# Altium footprint library Passive Comp.PcbLib: 3 footprints
Each footprint in its own frame and in the unit in brackets; x right, y up, seen from the top. Pads: shape width x height; smd on the part's side, far side on the other; paste and mask are expansions set on the pad; w line width, h text height; cw(c..) or ccw(c..) is an arc to the next point about the centre after c.
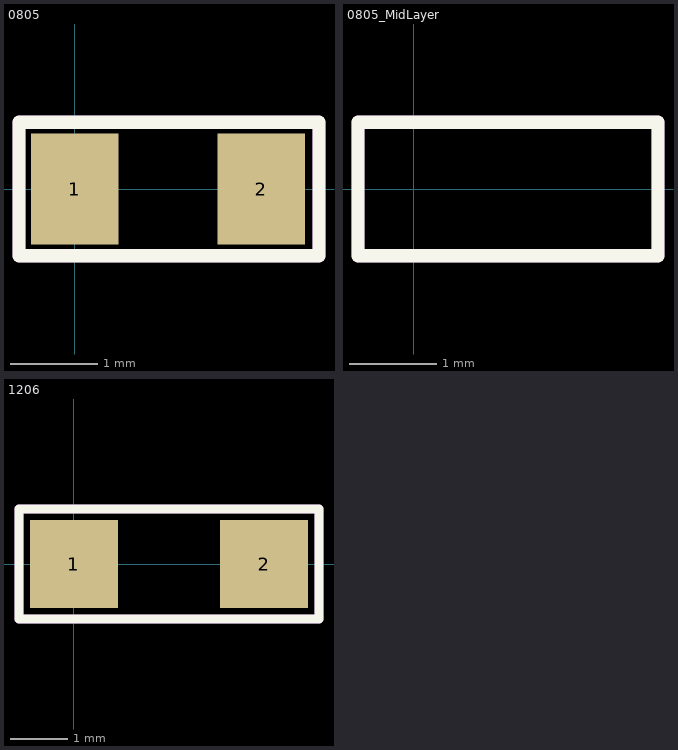
[diagram p0: the footprints below, top view; thin cyan lines are the x and y axes]

## 0805 [mil]
height 2
pads (2):
  rect 39.37x50 smd: 1(0,0) 2(84,0)
Top Overlay:
  lines w6: -25,-30 -25,30 110,30 110,-30 -25,-30
Mechanical 16:
  lines w6: -25,-30 110,-30 110,30 -25,30 -25,-30

## 0805_MidLayer [mil]
pads (2):
  rect 0x0 / inner rect 39.37x50 / far side rect 0x0 all layers, no hole: 1(0,0) 2(84,0)
Top Overlay:
  lines w6: -25,-30 -25,30 110,30 110,-30 -25,-30
Mechanical 1:
  lines w6: -25,-30 -25,30 110,30 110,-30 -25,-30

## 1206 [mil]
height 3
pads (2):
  rect 60x60 smd: 1(0,0) 2(130,0)
Top Overlay:
  lines w6: -37.5,-37.5 167.5,-37.5 167.5,37.5 -37.5,37.5 -37.5,-37.5
Mechanical 16:
  lines w6: -37.5,-37.5 -37.5,37.5 167.5,37.5 167.5,-37.5 -37.5,-37.5